# Altium footprint library RAK439.PcbLib: 1 footprints
Each footprint in its own frame and in the unit in brackets; x right, y up, seen from the top. Pads: shape width x height; smd on the part's side, far side on the other; paste and mask are expansions set on the pad; w line width, h text height; cw(c..) or ccw(c..) is an arc to the next point about the centre after c.
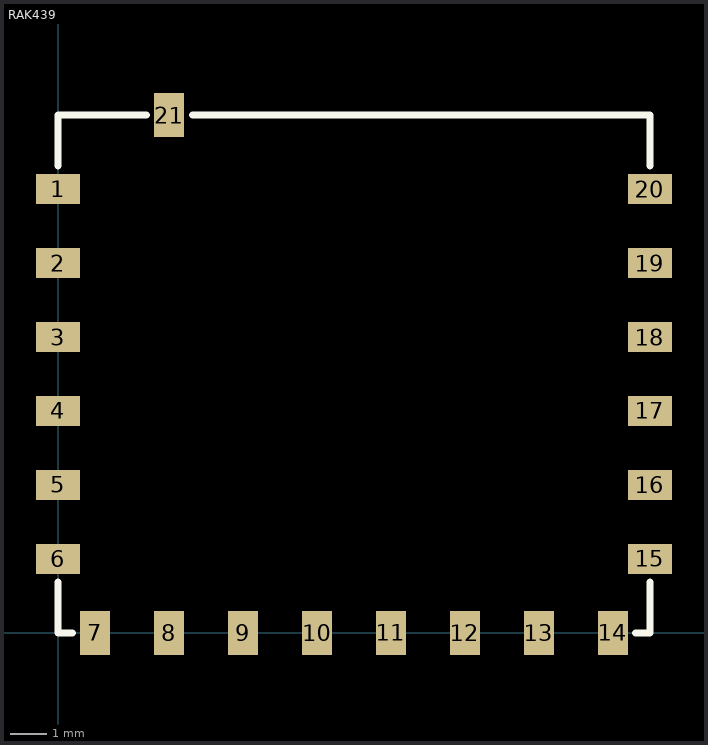
[diagram p0: the footprint, top view; thin cyan lines are the x and y axes]

## RAK439 [mm]
pads (21):
  rect 1.2x0.8 smd: 1(0,12) 2(0,10) 3(0,8) 4(0,6) 5(0,4) 6(0,2) 15(16,2) 16(16,4) 17(16,6) 18(16,8) 19(16,10) 20(16,12)
  rect 0.8x1.2 smd: 7(1,0) 8(3,0) 9(5,0) 10(7,0) 11(9,0) 12(11,0) 13(13,0) 14(15,0) 21(3,14)
Top Overlay:
  lines w0.2: 0,1.372 0,0 0.392,0 ; 0,12.624 0,14 2.379,14 ; 3.64,14 16,14 16,12.624 ; 15.608,0 16,0 16,1.372